# Altium schematic symbol library A-DF_09_A_KG-T2S.SchLib: 1 symbol
Pins are listed as number, name and electrical type; pins without a type are passive.

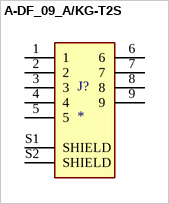
[diagram p0: symbol A-DF_09_A/KG-T2S]

## A-DF_09_A/KG-T2S
designator J?
9 Position D-Sub Receptacle, Female Sockets Connector; MP: A-DF 09 A/KG-T2S; MF: Assmann WSW; SnapEDA_Link: https://www.snapeda.com/parts/A-DF%2009%20A/KG-T2S/Assmann%20WSW%20Components/view-part/2761262/?ref=snap; Availability: Unavailable; Check_prices: https://www.snapeda.com/parts/A-DF%2009%20A/KG-T2S/Assmann%20WSW%20Components/view-part/2761262/?ref=eda; Price: None; Value: *; Package: None
footprint ASSMANN_A-DF09A/KG-T2S
pins: 1, 2, 3, 4, 5, 6, 7, 8, 9, S1 SHIELD, S2 SHIELD